# Altium schematic symbol library RF Connector.SchLib: 5 symbols
Pins are listed as number, name and electrical type; pins without a type are passive.

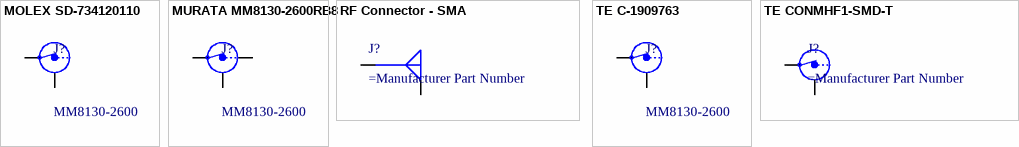
[diagram p0: symbols MOLEX SD-734120110 to TE CONMHF1-SMD-T]

## MOLEX SD-734120110
designator J?, comment MM8130-2600
UFL Coaxial Connector with Switch; Manufacturer: Murata; 2nd source part number: 81-MM8130-2600RA2; Artikkelnr Noca: 55029011; Artikkelnr Simpro: N.A.; Part Number: MM8130-2600; Manufacturer Part Number: MM8130-2600; Datasheet: http://www.murata.com/products/catalog/pdf/o33e.pdf; LatestRevisionDate: 2014-04-24; Pin Count: 3; Publisher: Nordic Semiconductor; Published: 2014-04-24; Value: MM8130-2600; Note: *; Supplier: Digi-Key; Supplier part number: 490-4981-1-ND; 2nd source Supplier: Mouser; Footprint Doc: COAXIAL-SWF
footprint MOLEX SD-734120110
pins: G Shield, S IN

## MURATA MM8130-2600RB8
designator J?, comment MM8130-2600
UFL Coaxial Connector with Switch; Manufacturer: Murata; 2nd source part number: 81-MM8130-2600RA2; Artikkelnr Noca: 55029011; Artikkelnr Simpro: N.A.; Part Number: MM8130-2600; Manufacturer Part Number: MM8130-2600; Datasheet: http://www.murata.com/products/catalog/pdf/o33e.pdf; LatestRevisionDate: 2014-04-24; Pin Count: 3; Publisher: Nordic Semiconductor; Published: 2014-04-24; Value: MM8130-2600; Note: *; Supplier: Digi-Key; Supplier part number: 490-4981-1-ND; 2nd source Supplier: Mouser; Footprint Doc: COAXIAL-SWF
footprint MURATA MM8130-2600RB8 (Microwave Coaxial Cable Connectors)
pins: G Shield, S1 IN, S2 OUT

## RF Connector - SMA
designator J?
footprint LINX CONREVSMA003.062 (RP-SMA FEMALE EDGE MOUNT FOR 0.062" THICK BOARD)
footprint MOLEX SD-73100-0114
footprint MOLEX SD-73100-0115
footprint MOLEX SD-73251-068
footprint MOLEX SD-73251-104
footprint MOLEX SD-73251-115
footprint MOLEX SD-73251-129
footprint MOLEX SD-73251-135 (Gold)
footprint MOLEX SD-73251-212
footprint MOLEX SD-73251-220 (Gold, 2.79mm feet)
footprint MOLEX SD-73251-220 (Gold, 3.94mm feet)
footprint MOLEX SD-73251-220 (Nickel, 2.79mm feet)
footprint MOLEX SD-73251-230
footprint MOLEX SD-73251-562
footprint MOLEX SD-73391-0060
pins: G, S

## TE C-1909763
designator J?, comment MM8130-2600
U.FL Coaxial Connector with Switch; Manufacturer: Murata; 2nd source part number: 81-MM8130-2600RA2; Artikkelnr Noca: 55029011; Artikkelnr Simpro: N.A.; Part Number: MM8130-2600; Manufacturer Part Number: MM8130-2600; Datasheet: http://www.murata.com/products/catalog/pdf/o33e.pdf; LatestRevisionDate: 2014-04-24; Pin Count: 3; Publisher: Nordic Semiconductor; Published: 2014-04-24; Value: MM8130-2600; Note: *; Supplier: Digi-Key; Supplier part number: 490-4981-1-ND; 2nd source Supplier: Mouser; Footprint Doc: COAXIAL-SWF
footprint TE C-1909763
pins: G Shield, S IN

## TE CONMHF1-SMD-T
designator J?
U.FL Connector
footprint TE CONMHF1-SMD-T
pins: 1, 2, 3, 4